# EAGLE library part BLUETOOTH-RN-52 (library Finn-lbr-rev1)
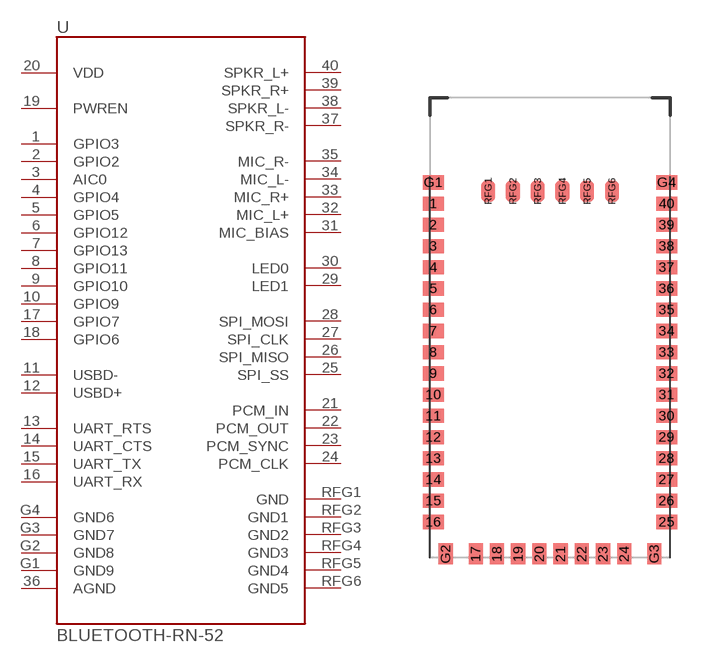
[diagram p2: symbol with the pads of RN-52; footprint RN-52]

Designator prefix -

## BLUETOOTH-RN-52  [RN-52]
1  GPIO3
2  GPIO2
3  AIC0
4  GPIO4
5  GPIO5
6  GPIO12
7  GPIO13
8  GPIO11
9  GPIO10
10  GPIO9
11  USBD-
12  USBD+
13  UART_RTS
14  UART_CTS
15  UART_TX
16  UART_RX
17  GPIO7
18  GPIO6
19  PWREN
20  VDD
21  PCM_IN
22  PCM_OUT
23  PCM_SYNC
24  PCM_CLK
25  SPI_SS
26  SPI_MISO
27  SPI_CLK
28  SPI_MOSI
29  LED1
30  LED0
31  MIC_BIAS
32  MIC_L+
33  MIC_R+
34  MIC_L-
35  MIC_R-
36  AGND
37  SPKR_R-
38  SPKR_L-
39  SPKR_R+
40  SPKR_L+
G1  GND9
G2  GND8
G3  GND7
G4  GND6
RFG1  GND
RFG2  GND1
RFG3  GND2
RFG4  GND3
RFG5  GND4
RFG6  GND5

## Footprint RN-52 (pad centres in mm)
smd 1.2 x 0.8: 1 -6.6,8.33; 2 -6.6,7.13; 3 -6.6,5.93; 4 -6.6,4.73; 5 -6.6,3.53; 6 -6.6,2.33; 7 -6.6,1.13; 8 -6.6,-0.07; 9 -6.6,-1.27; 10 -6.6,-2.47; 11 -6.6,-3.67; 12 -6.6,-4.87; 13 -6.6,-6.07; 14 -6.6,-7.27; 15 -6.6,-8.47; 16 -6.6,-9.67; 25 6.6,-9.67; 26 6.6,-8.47; 27 6.6,-7.27; 28 6.6,-6.07; 29 6.6,-4.87; 30 6.6,-3.67; 31 6.6,-2.47; 32 6.6,-1.27; 33 6.6,-0.07; 34 6.6,1.13; 35 6.6,2.33; 36 6.6,3.53; 37 6.6,4.73; 38 6.6,5.93; 39 6.6,7.13; 40 6.6,8.33; G1 -6.6,9.53; G4 6.6,9.53
smd 0.8 x 1.2: 17 -4.2,-11.47; 18 -3,-11.47; 19 -1.8,-11.47; 20 -0.6,-11.47; 21 0.6,-11.47; 22 1.8,-11.47; 23 3,-11.47; 24 4.2,-11.47; G2 -5.9,-11.47; G3 5.9,-11.46; RFG1 -3.5,9.03; RFG2 -2.1,9.03; RFG3 -0.7,9.03; RFG4 0.7,9.03; RFG5 2.1,9.03; RFG6 3.5,9.03